# Altium integrated library Analog Devices Data Converters Digital-to-Analog Converters.IntLib: 2231 symbols (part 60 of 181)
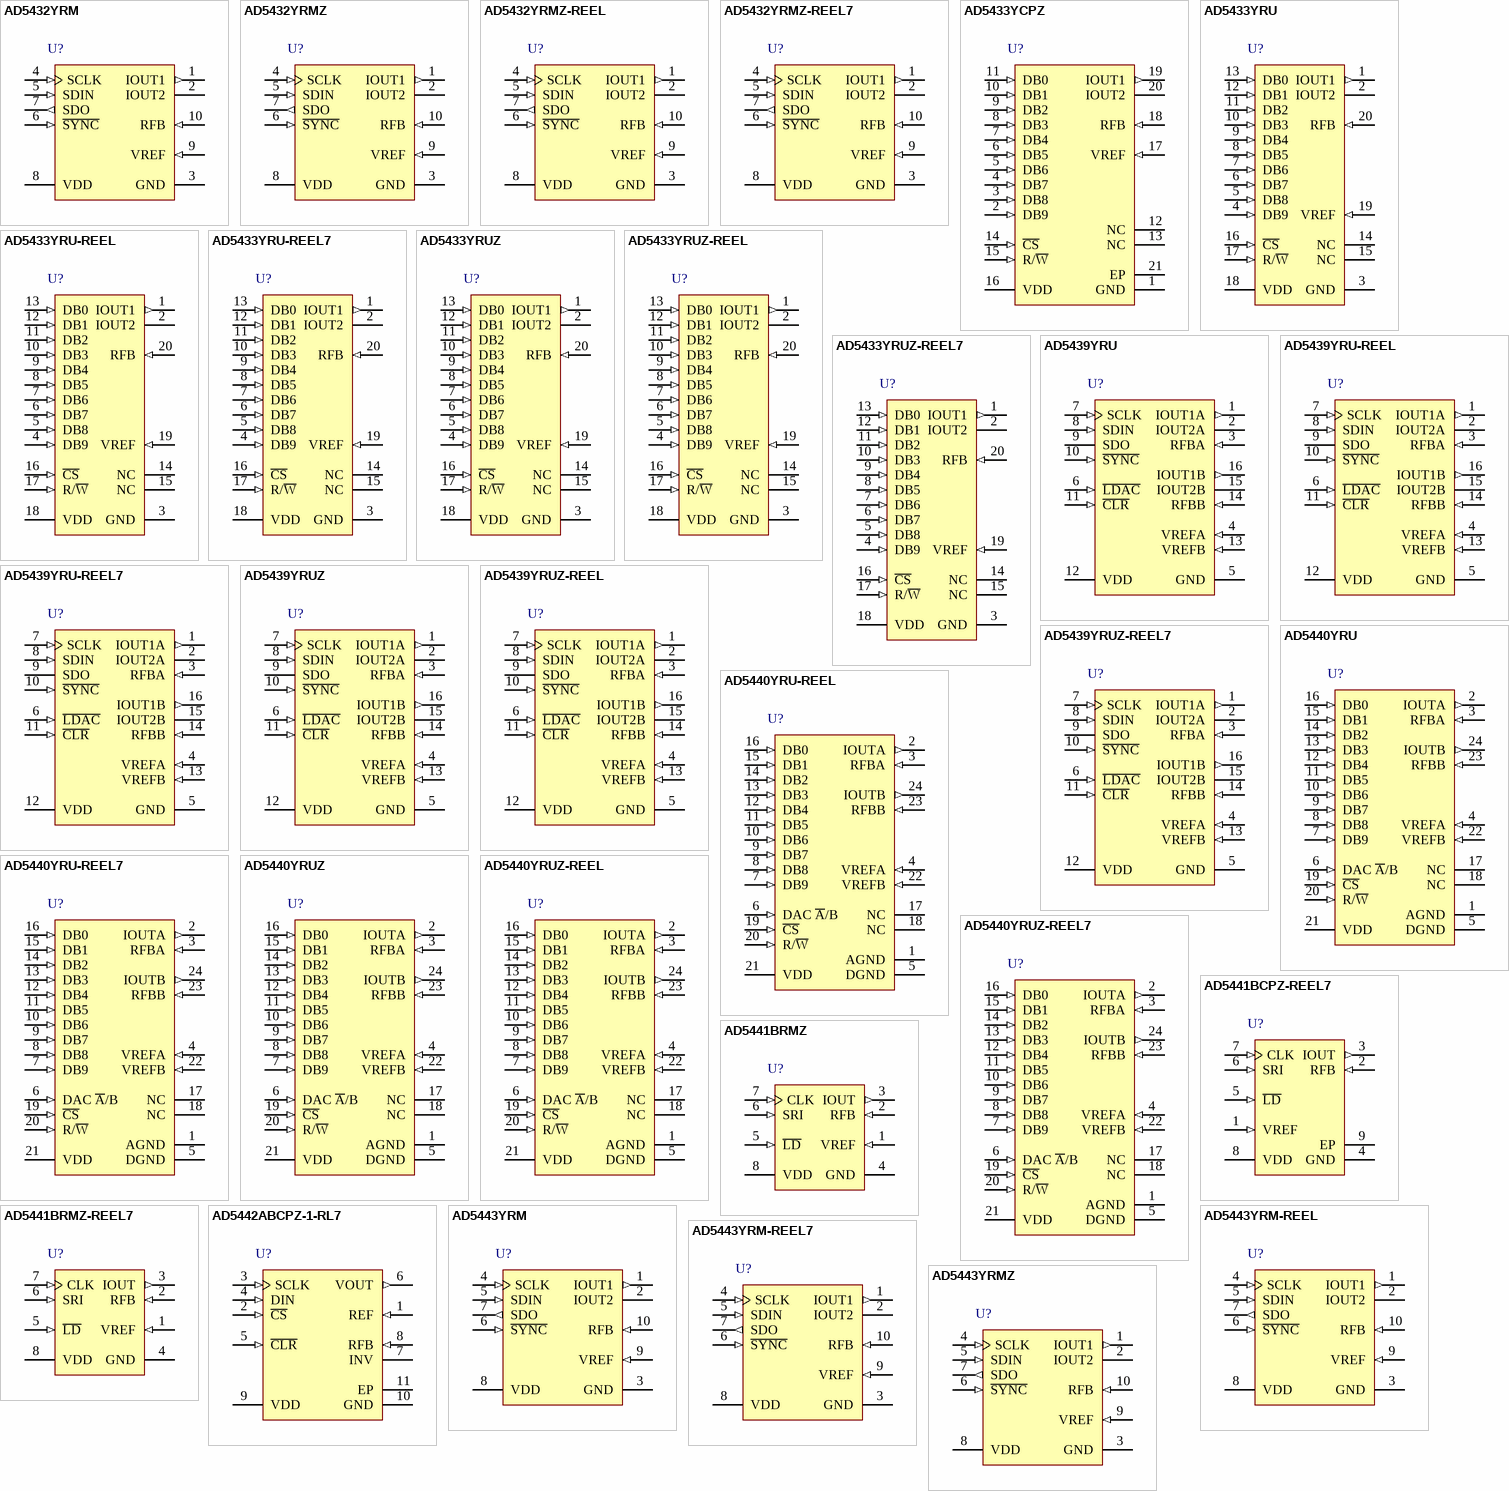
[diagram p173: symbols AD5432YRM to AD5443YRMZ]

## AD5439YRUZ
designator U?
Dual 10-Bit High Bandwidth Multiplying Digital-to-Analog Converter, -40 to +125 degC, RU-16, Pb-Free, Tube; Generic Part Number: AD5439; Manufacturer: Analog Devices; PartNumber: AD5439YRUZ; # DAC Outputs: 2; Max V+: 5.5V; Op Pwr Diss: 3.5µW; Resolution (Bits): 10; Settling Time: 35ns; Single Supply: Yes; DatasheetVersion: Rev.D; PackageVersion: Nov-2002; PackageReference: RU-16; PackageDescription: 16-Lead Thin Shrink Small Outline Package [TSSOP]; Supplier 1: Digi-Key; Supplier Part Number 1: AD5439YRUZ-ND; Supplier 2: Newark; Supplier Part Number 2: 59K4141; Supplier 3: Mouser; Supplier Part Number 3: 584-AD5439YRUZ; Packing: Tube; RoHS: Y; Mounting Technology: Surface Mount; Code_JEDEC: MO-153-AB; ComponentLink1Description: Manufacturer URL; ComponentLink1URL: http://www.analog.com/en/index.html; ComponentLink2Description: Datasheet; ComponentLink2URL: http://www.analog.com/static/imported-files/data_sheets/AD5429_5439_5449.pdf; ComponentLink3Description: Package Specification; ComponentLink3URL: http://www.analog.com/static/imported-files/packages/36244347913743854010197452789RU16.pdf; ComponentLink4Description: Product URL; ComponentLink4URL: http://www.analog.com/en/digital-to-analog-converters/da-converters/ad5439/products/product.html
footprint RU-16_N (TSOP, 16-Leads, Body 5x4.4mm, Pitch 0.65mm, IPC Medium Density)
footprint RU-16_L (TSOP, 16-Leads, Body 5x4.4mm, Pitch 0.65mm, IPC High Density)
footprint RU-16_M (TSOP, 16-Leads, Body 5x4.4mm, Pitch 0.65mm, IPC Low Density)
pins: 1 IOUT1A (out) "DAC A Current Output.", 2 IOUT2A "DAC A Analog Ground. This pin should typically be tied to the analog ground of the system, but it can be biased to achieve single-supply operation.", 3 RFBA (in) "DAC Feedback Resistor Pin. This pin establishes voltage output for the DAC by connecting to an external amplifier output.", 4 VREFA (in) "DAC A Reference Voltage Input Pin.", 5 GND (power) "Ground Pin.", 6 ~{LDAC} (in) "Load DAC Input. This pin allows asynchronous or synchronous updates to the DAC output. The DAC is asynchronously updated when this signal goes low. Alternatively, if this line is held permanently low, an automatic or (See Datasheet)", 7 SCLK (in) "Serial Clock Input. By default, data is clocked into the input shift register on the falling edge of the serial clock input. Alternatively, by means of the serial control bits, the device can be configured such that data is (See Datasheet)", 8 SDIN (in) "Serial Data Input. Data is clocked into the 16-bit input register on the active edge of the serial clock input. By default, data is clocked at power-on into the shift register on the falling edge of SCLK. The control bits (See Datasheet)", 9 SDO (oc) "Serial Data Output. This pin allows a number of parts to be daisy-chained. By default, data is clocked into the shift register on the falling edge and clocked out via SDO on the rising edge of SCLK. Data is always clocked (See Datasheet)", 10 ~{SYNC} (in) "Active Low Control Input. This pin provides the frame synchronization signal for the input data. When S\Y\N\C\ goes low, it powers on the SCLK and DIN buffers, and the input shift register is enabled. Data is loaded into the (See Datasheet)", 11 ~{CLR} (in) "Active Low Control Input. This pin clears the DAC output, input, and DAC registers. Configuration mode allows the user to enable the hardware C\L\R\ pin as a clear-to-zero scale or midscale, as required.", 12 VDD (power) "Positive Power Supply Input. These parts can be operated from a supply of 2.5 V to 5.5 V.", 13 VREFB (in) "DAC B Reference Voltage Input Pin.", 14 RFBB (in) "DAC B Feedback Resistor Pin. This pin establishes voltage output for the DAC by connecting to an external amplifier output.", 15 IOUT2B "DAC B Analog Ground. This pin typically should be tied to the analog ground of the system, but it can be biased to achieve single-supply operation.", 16 IOUT1B (out) "DAC B Current Output."

## AD5439YRUZ-REEL
designator U?
Dual 10-Bit High Bandwidth Multiplying Digital-to-Analog Converter, -40 to +125 degC, RU-16, Pb-Free, Reel; Generic Part Number: AD5439; Manufacturer: Analog Devices; PartNumber: AD5439YRUZ-REEL; # DAC Outputs: 2; Max V+: 5.5V; Op Pwr Diss: 3.5µW; Resolution (Bits): 10; Settling Time: 35ns; Single Supply: Yes; DatasheetVersion: Rev.D; PackageVersion: Nov-2002; PackageReference: RU-16; PackageDescription: 16-Lead Thin Shrink Small Outline Package [TSSOP]; Supplier 1: Digi-Key; Supplier Part Number 1: AD5439YRUZ-REEL-ND; Supplier 2: Mouser; Supplier Part Number 2: 584-AD5439YRUZ-R; Packing: Reel; RoHS: Y; Mounting Technology: Surface Mount; Code_JEDEC: MO-153-AB; ComponentLink1Description: Manufacturer URL; ComponentLink1URL: http://www.analog.com/en/index.html; ComponentLink2Description: Datasheet; ComponentLink2URL: http://www.analog.com/static/imported-files/data_sheets/AD5429_5439_5449.pdf; ComponentLink3Description: Package Specification; ComponentLink3URL: http://www.analog.com/static/imported-files/packages/36244347913743854010197452789RU16.pdf; ComponentLink4Description: Product URL; ComponentLink4URL: http://www.analog.com/en/digital-to-analog-converters/da-converters/ad5439/products/product.html
footprint RU-16_N (TSOP, 16-Leads, Body 5x4.4mm, Pitch 0.65mm, IPC Medium Density)
footprint RU-16_L (TSOP, 16-Leads, Body 5x4.4mm, Pitch 0.65mm, IPC High Density)
footprint RU-16_M (TSOP, 16-Leads, Body 5x4.4mm, Pitch 0.65mm, IPC Low Density)
pins: 1 IOUT1A (out) "DAC A Current Output.", 2 IOUT2A "DAC A Analog Ground. This pin should typically be tied to the analog ground of the system, but it can be biased to achieve single-supply operation.", 3 RFBA (in) "DAC Feedback Resistor Pin. This pin establishes voltage output for the DAC by connecting to an external amplifier output.", 4 VREFA (in) "DAC A Reference Voltage Input Pin.", 5 GND (power) "Ground Pin.", 6 ~{LDAC} (in) "Load DAC Input. This pin allows asynchronous or synchronous updates to the DAC output. The DAC is asynchronously updated when this signal goes low. Alternatively, if this line is held permanently low, an automatic or (See Datasheet)", 7 SCLK (in) "Serial Clock Input. By default, data is clocked into the input shift register on the falling edge of the serial clock input. Alternatively, by means of the serial control bits, the device can be configured such that data is (See Datasheet)", 8 SDIN (in) "Serial Data Input. Data is clocked into the 16-bit input register on the active edge of the serial clock input. By default, data is clocked at power-on into the shift register on the falling edge of SCLK. The control bits (See Datasheet)", 9 SDO (oc) "Serial Data Output. This pin allows a number of parts to be daisy-chained. By default, data is clocked into the shift register on the falling edge and clocked out via SDO on the rising edge of SCLK. Data is always clocked (See Datasheet)", 10 ~{SYNC} (in) "Active Low Control Input. This pin provides the frame synchronization signal for the input data. When S\Y\N\C\ goes low, it powers on the SCLK and DIN buffers, and the input shift register is enabled. Data is loaded into the (See Datasheet)", 11 ~{CLR} (in) "Active Low Control Input. This pin clears the DAC output, input, and DAC registers. Configuration mode allows the user to enable the hardware C\L\R\ pin as a clear-to-zero scale or midscale, as required.", 12 VDD (power) "Positive Power Supply Input. These parts can be operated from a supply of 2.5 V to 5.5 V.", 13 VREFB (in) "DAC B Reference Voltage Input Pin.", 14 RFBB (in) "DAC B Feedback Resistor Pin. This pin establishes voltage output for the DAC by connecting to an external amplifier output.", 15 IOUT2B "DAC B Analog Ground. This pin typically should be tied to the analog ground of the system, but it can be biased to achieve single-supply operation.", 16 IOUT1B (out) "DAC B Current Output."

## AD5439YRUZ-REEL7
designator U?
Dual 10-Bit High Bandwidth Multiplying Digital-to-Analog Converter, -40 to +125 degC, RU-16, Pb-Free, Reel; Generic Part Number: AD5439; Manufacturer: Analog Devices; PartNumber: AD5439YRUZ-REEL7; # DAC Outputs: 2; Max V+: 5.5V; Op Pwr Diss: 3.5µW; Resolution (Bits): 10; Settling Time: 35ns; Single Supply: Yes; DatasheetVersion: Rev.D; PackageVersion: Nov-2002; PackageReference: RU-16; PackageDescription: 16-Lead Thin Shrink Small Outline Package [TSSOP]; Supplier 1: Digi-Key; Supplier Part Number 1: AD5439YRUZ-REEL7TR-ND; Supplier 2: Mouser; Supplier Part Number 2: 584-AD5439YRUZ-R7; Packing: Reel; RoHS: Y; Mounting Technology: Surface Mount; Code_JEDEC: MO-153-AB; ComponentLink1Description: Manufacturer URL; ComponentLink1URL: http://www.analog.com/en/index.html; ComponentLink2Description: Datasheet; ComponentLink2URL: http://www.analog.com/static/imported-files/data_sheets/AD5429_5439_5449.pdf; ComponentLink3Description: Package Specification; ComponentLink3URL: http://www.analog.com/static/imported-files/packages/36244347913743854010197452789RU16.pdf; ComponentLink4Description: Product URL; ComponentLink4URL: http://www.analog.com/en/digital-to-analog-converters/da-converters/ad5439/products/product.html
footprint RU-16_N (TSOP, 16-Leads, Body 5x4.4mm, Pitch 0.65mm, IPC Medium Density)
footprint RU-16_L (TSOP, 16-Leads, Body 5x4.4mm, Pitch 0.65mm, IPC High Density)
footprint RU-16_M (TSOP, 16-Leads, Body 5x4.4mm, Pitch 0.65mm, IPC Low Density)
pins: 1 IOUT1A (out) "DAC A Current Output.", 2 IOUT2A "DAC A Analog Ground. This pin should typically be tied to the analog ground of the system, but it can be biased to achieve single-supply operation.", 3 RFBA (in) "DAC Feedback Resistor Pin. This pin establishes voltage output for the DAC by connecting to an external amplifier output.", 4 VREFA (in) "DAC A Reference Voltage Input Pin.", 5 GND (power) "Ground Pin.", 6 ~{LDAC} (in) "Load DAC Input. This pin allows asynchronous or synchronous updates to the DAC output. The DAC is asynchronously updated when this signal goes low. Alternatively, if this line is held permanently low, an automatic or (See Datasheet)", 7 SCLK (in) "Serial Clock Input. By default, data is clocked into the input shift register on the falling edge of the serial clock input. Alternatively, by means of the serial control bits, the device can be configured such that data is (See Datasheet)", 8 SDIN (in) "Serial Data Input. Data is clocked into the 16-bit input register on the active edge of the serial clock input. By default, data is clocked at power-on into the shift register on the falling edge of SCLK. The control bits (See Datasheet)", 9 SDO (oc) "Serial Data Output. This pin allows a number of parts to be daisy-chained. By default, data is clocked into the shift register on the falling edge and clocked out via SDO on the rising edge of SCLK. Data is always clocked (See Datasheet)", 10 ~{SYNC} (in) "Active Low Control Input. This pin provides the frame synchronization signal for the input data. When S\Y\N\C\ goes low, it powers on the SCLK and DIN buffers, and the input shift register is enabled. Data is loaded into the (See Datasheet)", 11 ~{CLR} (in) "Active Low Control Input. This pin clears the DAC output, input, and DAC registers. Configuration mode allows the user to enable the hardware C\L\R\ pin as a clear-to-zero scale or midscale, as required.", 12 VDD (power) "Positive Power Supply Input. These parts can be operated from a supply of 2.5 V to 5.5 V.", 13 VREFB (in) "DAC B Reference Voltage Input Pin.", 14 RFBB (in) "DAC B Feedback Resistor Pin. This pin establishes voltage output for the DAC by connecting to an external amplifier output.", 15 IOUT2B "DAC B Analog Ground. This pin typically should be tied to the analog ground of the system, but it can be biased to achieve single-supply operation.", 16 IOUT1B (out) "DAC B Current Output."

## AD5440YRU
designator U?
Dual 10-Bit High Bandwidth Multiplying Digital-to-Analog Converter, -40 to +125 degC, RU-24, Tube; Generic Part Number: AD5440; Manufacturer: Analog Devices; PartNumber: AD5440YRU; # DAC Outputs: 2; Max V+: 5.5V; Op Pwr Diss: 3.3µW; Resolution (Bits): 10; Settling Time: 35ns; Single Supply: Yes; DatasheetVersion: Rev.C; PackageVersion: 2002; PackageReference: RU-24; PackageDescription: 24-Lead Thin Shrink Small Outline Package [TSSOP]; Supplier 1: Digi-Key; Supplier Part Number 1: AD5440YRU-ND; Supplier 2: Mouser; Supplier Part Number 2: 584-AD5440YRU; Packing: Tube; RoHS: N; Mounting Technology: Surface Mount; Code_JEDEC: MO-153-AD; ComponentLink1Description: Manufacturer URL; ComponentLink1URL: http://www.analog.com/en/index.html; ComponentLink2Description: Datasheet; ComponentLink2URL: http://www.analog.com/static/imported-files/data_sheets/AD5428_5440_5447.pdf; ComponentLink3Description: Package Specification; ComponentLink3URL: http://www.analog.com/static/imported-files/packages/380523655245964505593671154107510036154RU24.pdf; ComponentLink4Description: Product URL; ComponentLink4URL: http://www.analog.com/en/digital-to-analog-converters/da-converters/ad5440/products/product.html
footprint RU-24_N (TSOP, 24-Leads, Body 7.8x4.4mm, Pitch 0.65mm, IPC Medium Density)
footprint RU-24_L (TSOP, 24-Leads, Body 7.8x4.4mm, Pitch 0.65mm, IPC High Density)
footprint RU-24_M (TSOP, 24-Leads, Body 7.8x4.4mm, Pitch 0.65mm, IPC Low Density)
pins: 1 AGND (power) "DAC Ground Pin. This pin should typically be tied to the analog ground of the system, but can be biased to achieve single-supply operation.", 2 IOUTA (out) "DAC Current Output.", 3 RFBA (in) "DAC Feedback Resistor Pins. Establish voltage output for the DAC by connecting to an external amplifier output.", 4 VREFA (in) "DAC Reference Voltage Input Terminals.", 5 DGND (power) "Digital Ground Pin.", 6 DAC ~{A}/B (in) "Selects DAC A or DAC B. Low selects DAC A; high selects DAC B.", 7 DB9 (in) "Parallel Data Bit 9", 8 DB8 (in) "Parallel Data Bit 8", 9 DB7 (in) "Parallel Data Bit 7", 10 DB6 (in) "Parallel Data Bit 6", 11 DB5 (in) "Parallel Data Bit 5", 12 DB4 (in) "Parallel Data Bit 4", 13 DB3 (in) "Parallel Data Bit 3", 14 DB2 (in) "Parallel Data Bit 2", 15 DB1 (in) "Parallel Data Bit 1", 16 DB0 (in) "Parallel Data Bit 0", 17 NC "No connection", 18 NC "No connection", 19 ~{CS} (in) "Chip Select Input. Active low. Used in conjunction with R/W\ to load parallel data to the input latch or to read data from the DAC register.", 20 R/~{W} (in) "Read/Write. When low, used in conjunction with C\S\ to load parallel data. When high, used in conjunction with C\S\ to read back the contents of the DAC register. When C\S\ and R/W\ are held low, the latches are transparent. (See Datasheet)", 21 VDD (power) "Positive Power Supply Input. This part can be operated from a supply of 2.5 V to 5.5 V.", 22 VREFB (in) "DAC Reference Voltage Input Terminals.", 23 RFBB (in) "DAC Feedback Resistor Pins. Establish voltage output for the DAC by connecting to an external amplifier output.", 24 IOUTB (out) "DAC Current Output."

## AD5440YRU-REEL
designator U?
Dual 10-Bit High Bandwidth Multiplying Digital-to-Analog Converter, -40 to +125 degC, RU-24, Reel; Generic Part Number: AD5440; Manufacturer: Analog Devices; PartNumber: AD5440YRU-REEL; # DAC Outputs: 2; Max V+: 5.5V; Op Pwr Diss: 3.3µW; Resolution (Bits): 10; Settling Time: 35ns; Single Supply: Yes; DatasheetVersion: Rev.C; PackageVersion: 2002; PackageReference: RU-24; PackageDescription: 24-Lead Thin Shrink Small Outline Package [TSSOP]; Supplier 1: Digi-Key; Supplier Part Number 1: AD5440YRU-REEL-ND; Supplier 2: Newark; Supplier Part Number 2: 59K4143; Supplier 3: Mouser; Supplier Part Number 3: 584-AD5440YRU-R; Packing: Reel; RoHS: N; Mounting Technology: Surface Mount; Code_JEDEC: MO-153-AD; ComponentLink1Description: Manufacturer URL; ComponentLink1URL: http://www.analog.com/en/index.html; ComponentLink2Description: Datasheet; ComponentLink2URL: http://www.analog.com/static/imported-files/data_sheets/AD5428_5440_5447.pdf; ComponentLink3Description: Package Specification; ComponentLink3URL: http://www.analog.com/static/imported-files/packages/380523655245964505593671154107510036154RU24.pdf; ComponentLink4Description: Product URL; ComponentLink4URL: http://www.analog.com/en/digital-to-analog-converters/da-converters/ad5440/products/product.html
footprint RU-24_N (TSOP, 24-Leads, Body 7.8x4.4mm, Pitch 0.65mm, IPC Medium Density)
footprint RU-24_L (TSOP, 24-Leads, Body 7.8x4.4mm, Pitch 0.65mm, IPC High Density)
footprint RU-24_M (TSOP, 24-Leads, Body 7.8x4.4mm, Pitch 0.65mm, IPC Low Density)
pins: 1 AGND (power) "DAC Ground Pin. This pin should typically be tied to the analog ground of the system, but can be biased to achieve single-supply operation.", 2 IOUTA (out) "DAC Current Output.", 3 RFBA (in) "DAC Feedback Resistor Pins. Establish voltage output for the DAC by connecting to an external amplifier output.", 4 VREFA (in) "DAC Reference Voltage Input Terminals.", 5 DGND (power) "Digital Ground Pin.", 6 DAC ~{A}/B (in) "Selects DAC A or DAC B. Low selects DAC A; high selects DAC B.", 7 DB9 (in) "Parallel Data Bit 9", 8 DB8 (in) "Parallel Data Bit 8", 9 DB7 (in) "Parallel Data Bit 7", 10 DB6 (in) "Parallel Data Bit 6", 11 DB5 (in) "Parallel Data Bit 5", 12 DB4 (in) "Parallel Data Bit 4", 13 DB3 (in) "Parallel Data Bit 3", 14 DB2 (in) "Parallel Data Bit 2", 15 DB1 (in) "Parallel Data Bit 1", 16 DB0 (in) "Parallel Data Bit 0", 17 NC "No connection", 18 NC "No connection", 19 ~{CS} (in) "Chip Select Input. Active low. Used in conjunction with R/W\ to load parallel data to the input latch or to read data from the DAC register.", 20 R/~{W} (in) "Read/Write. When low, used in conjunction with C\S\ to load parallel data. When high, used in conjunction with C\S\ to read back the contents of the DAC register. When C\S\ and R/W\ are held low, the latches are transparent. (See Datasheet)", 21 VDD (power) "Positive Power Supply Input. This part can be operated from a supply of 2.5 V to 5.5 V.", 22 VREFB (in) "DAC Reference Voltage Input Terminals.", 23 RFBB (in) "DAC Feedback Resistor Pins. Establish voltage output for the DAC by connecting to an external amplifier output.", 24 IOUTB (out) "DAC Current Output."

## AD5440YRU-REEL7
designator U?
Dual 10-Bit High Bandwidth Multiplying Digital-to-Analog Converter, -40 to +125 degC, RU-24, Reel; Generic Part Number: AD5440; Manufacturer: Analog Devices; PartNumber: AD5440YRU-REEL7; # DAC Outputs: 2; Max V+: 5.5V; Op Pwr Diss: 3.3µW; Resolution (Bits): 10; Settling Time: 35ns; Single Supply: Yes; DatasheetVersion: Rev.C; PackageVersion: 2002; PackageReference: RU-24; PackageDescription: 24-Lead Thin Shrink Small Outline Package [TSSOP]; Supplier 1: Digi-Key; Supplier Part Number 1: AD5440YRU-REEL7-ND; Supplier 2: Mouser; Supplier Part Number 2: 584-AD5440YRU-R7; Packing: Reel; RoHS: N; Mounting Technology: Surface Mount; Code_JEDEC: MO-153-AD; ComponentLink1Description: Manufacturer URL; ComponentLink1URL: http://www.analog.com/en/index.html; ComponentLink2Description: Datasheet; ComponentLink2URL: http://www.analog.com/static/imported-files/data_sheets/AD5428_5440_5447.pdf; ComponentLink3Description: Package Specification; ComponentLink3URL: http://www.analog.com/static/imported-files/packages/380523655245964505593671154107510036154RU24.pdf; ComponentLink4Description: Product URL; ComponentLink4URL: http://www.analog.com/en/digital-to-analog-converters/da-converters/ad5440/products/product.html
footprint RU-24_N (TSOP, 24-Leads, Body 7.8x4.4mm, Pitch 0.65mm, IPC Medium Density)
footprint RU-24_L (TSOP, 24-Leads, Body 7.8x4.4mm, Pitch 0.65mm, IPC High Density)
footprint RU-24_M (TSOP, 24-Leads, Body 7.8x4.4mm, Pitch 0.65mm, IPC Low Density)
pins: 1 AGND (power) "DAC Ground Pin. This pin should typically be tied to the analog ground of the system, but can be biased to achieve single-supply operation.", 2 IOUTA (out) "DAC Current Output.", 3 RFBA (in) "DAC Feedback Resistor Pins. Establish voltage output for the DAC by connecting to an external amplifier output.", 4 VREFA (in) "DAC Reference Voltage Input Terminals.", 5 DGND (power) "Digital Ground Pin.", 6 DAC ~{A}/B (in) "Selects DAC A or DAC B. Low selects DAC A; high selects DAC B.", 7 DB9 (in) "Parallel Data Bit 9", 8 DB8 (in) "Parallel Data Bit 8", 9 DB7 (in) "Parallel Data Bit 7", 10 DB6 (in) "Parallel Data Bit 6", 11 DB5 (in) "Parallel Data Bit 5", 12 DB4 (in) "Parallel Data Bit 4", 13 DB3 (in) "Parallel Data Bit 3", 14 DB2 (in) "Parallel Data Bit 2", 15 DB1 (in) "Parallel Data Bit 1", 16 DB0 (in) "Parallel Data Bit 0", 17 NC "No connection", 18 NC "No connection", 19 ~{CS} (in) "Chip Select Input. Active low. Used in conjunction with R/W\ to load parallel data to the input latch or to read data from the DAC register.", 20 R/~{W} (in) "Read/Write. When low, used in conjunction with C\S\ to load parallel data. When high, used in conjunction with C\S\ to read back the contents of the DAC register. When C\S\ and R/W\ are held low, the latches are transparent. (See Datasheet)", 21 VDD (power) "Positive Power Supply Input. This part can be operated from a supply of 2.5 V to 5.5 V.", 22 VREFB (in) "DAC Reference Voltage Input Terminals.", 23 RFBB (in) "DAC Feedback Resistor Pins. Establish voltage output for the DAC by connecting to an external amplifier output.", 24 IOUTB (out) "DAC Current Output."

## AD5440YRUZ
designator U?
Dual 10-Bit High Bandwidth Multiplying Digital-to-Analog Converter, -40 to +125 degC, RU-24, Pb-Free, Tube; Generic Part Number: AD5440; Manufacturer: Analog Devices; PartNumber: AD5440YRUZ; # DAC Outputs: 2; Max V+: 5.5V; Op Pwr Diss: 3.3µW; Resolution (Bits): 10; Settling Time: 35ns; Single Supply: Yes; DatasheetVersion: Rev.C; PackageVersion: 2002; PackageReference: RU-24; PackageDescription: 24-Lead Thin Shrink Small Outline Package [TSSOP]; Supplier 1: Digi-Key; Supplier Part Number 1: AD5440YRUZ-ND; Supplier 2: Mouser; Supplier Part Number 2: 584-AD5440YRUZ; Packing: Tube; RoHS: Y; Mounting Technology: Surface Mount; Code_JEDEC: MO-153-AD; ComponentLink1Description: Manufacturer URL; ComponentLink1URL: http://www.analog.com/en/index.html; ComponentLink2Description: Datasheet; ComponentLink2URL: http://www.analog.com/static/imported-files/data_sheets/AD5428_5440_5447.pdf; ComponentLink3Description: Package Specification; ComponentLink3URL: http://www.analog.com/static/imported-files/packages/380523655245964505593671154107510036154RU24.pdf; ComponentLink4Description: Product URL; ComponentLink4URL: http://www.analog.com/en/digital-to-analog-converters/da-converters/ad5440/products/product.html
footprint RU-24_N (TSOP, 24-Leads, Body 7.8x4.4mm, Pitch 0.65mm, IPC Medium Density)
footprint RU-24_L (TSOP, 24-Leads, Body 7.8x4.4mm, Pitch 0.65mm, IPC High Density)
footprint RU-24_M (TSOP, 24-Leads, Body 7.8x4.4mm, Pitch 0.65mm, IPC Low Density)
pins: 1 AGND (power) "DAC Ground Pin. This pin should typically be tied to the analog ground of the system, but can be biased to achieve single-supply operation.", 2 IOUTA (out) "DAC Current Output.", 3 RFBA (in) "DAC Feedback Resistor Pins. Establish voltage output for the DAC by connecting to an external amplifier output.", 4 VREFA (in) "DAC Reference Voltage Input Terminals.", 5 DGND (power) "Digital Ground Pin.", 6 DAC ~{A}/B (in) "Selects DAC A or DAC B. Low selects DAC A; high selects DAC B.", 7 DB9 (in) "Parallel Data Bit 9", 8 DB8 (in) "Parallel Data Bit 8", 9 DB7 (in) "Parallel Data Bit 7", 10 DB6 (in) "Parallel Data Bit 6", 11 DB5 (in) "Parallel Data Bit 5", 12 DB4 (in) "Parallel Data Bit 4", 13 DB3 (in) "Parallel Data Bit 3", 14 DB2 (in) "Parallel Data Bit 2", 15 DB1 (in) "Parallel Data Bit 1", 16 DB0 (in) "Parallel Data Bit 0", 17 NC "No connection", 18 NC "No connection", 19 ~{CS} (in) "Chip Select Input. Active low. Used in conjunction with R/W\ to load parallel data to the input latch or to read data from the DAC register.", 20 R/~{W} (in) "Read/Write. When low, used in conjunction with C\S\ to load parallel data. When high, used in conjunction with C\S\ to read back the contents of the DAC register. When C\S\ and R/W\ are held low, the latches are transparent. (See Datasheet)", 21 VDD (power) "Positive Power Supply Input. This part can be operated from a supply of 2.5 V to 5.5 V.", 22 VREFB (in) "DAC Reference Voltage Input Terminals.", 23 RFBB (in) "DAC Feedback Resistor Pins. Establish voltage output for the DAC by connecting to an external amplifier output.", 24 IOUTB (out) "DAC Current Output."

## AD5440YRUZ-REEL
designator U?
Dual 10-Bit High Bandwidth Multiplying Digital-to-Analog Converter, -40 to +125 degC, RU-24, Pb-Free, Reel; Generic Part Number: AD5440; Manufacturer: Analog Devices; PartNumber: AD5440YRUZ-REEL; # DAC Outputs: 2; Max V+: 5.5V; Op Pwr Diss: 3.3µW; Resolution (Bits): 10; Settling Time: 35ns; Single Supply: Yes; DatasheetVersion: Rev.C; PackageVersion: 2002; PackageReference: RU-24; PackageDescription: 24-Lead Thin Shrink Small Outline Package [TSSOP]; Supplier 1: Digi-Key; Supplier Part Number 1: AD5440YRUZ-REEL-ND; Supplier 2: Mouser; Supplier Part Number 2: 584-AD5440YRUZ-R; Packing: Reel; RoHS: Y; Mounting Technology: Surface Mount; Code_JEDEC: MO-153-AD; ComponentLink1Description: Manufacturer URL; ComponentLink1URL: http://www.analog.com/en/index.html; ComponentLink2Description: Datasheet; ComponentLink2URL: http://www.analog.com/static/imported-files/data_sheets/AD5428_5440_5447.pdf; ComponentLink3Description: Package Specification; ComponentLink3URL: http://www.analog.com/static/imported-files/packages/380523655245964505593671154107510036154RU24.pdf; ComponentLink4Description: Product URL; ComponentLink4URL: http://www.analog.com/en/digital-to-analog-converters/da-converters/ad5440/products/product.html
footprint RU-24_N (TSOP, 24-Leads, Body 7.8x4.4mm, Pitch 0.65mm, IPC Medium Density)
footprint RU-24_L (TSOP, 24-Leads, Body 7.8x4.4mm, Pitch 0.65mm, IPC High Density)
footprint RU-24_M (TSOP, 24-Leads, Body 7.8x4.4mm, Pitch 0.65mm, IPC Low Density)
pins: 1 AGND (power) "DAC Ground Pin. This pin should typically be tied to the analog ground of the system, but can be biased to achieve single-supply operation.", 2 IOUTA (out) "DAC Current Output.", 3 RFBA (in) "DAC Feedback Resistor Pins. Establish voltage output for the DAC by connecting to an external amplifier output.", 4 VREFA (in) "DAC Reference Voltage Input Terminals.", 5 DGND (power) "Digital Ground Pin.", 6 DAC ~{A}/B (in) "Selects DAC A or DAC B. Low selects DAC A; high selects DAC B.", 7 DB9 (in) "Parallel Data Bit 9", 8 DB8 (in) "Parallel Data Bit 8", 9 DB7 (in) "Parallel Data Bit 7", 10 DB6 (in) "Parallel Data Bit 6", 11 DB5 (in) "Parallel Data Bit 5", 12 DB4 (in) "Parallel Data Bit 4", 13 DB3 (in) "Parallel Data Bit 3", 14 DB2 (in) "Parallel Data Bit 2", 15 DB1 (in) "Parallel Data Bit 1", 16 DB0 (in) "Parallel Data Bit 0", 17 NC "No connection", 18 NC "No connection", 19 ~{CS} (in) "Chip Select Input. Active low. Used in conjunction with R/W\ to load parallel data to the input latch or to read data from the DAC register.", 20 R/~{W} (in) "Read/Write. When low, used in conjunction with C\S\ to load parallel data. When high, used in conjunction with C\S\ to read back the contents of the DAC register. When C\S\ and R/W\ are held low, the latches are transparent. (See Datasheet)", 21 VDD (power) "Positive Power Supply Input. This part can be operated from a supply of 2.5 V to 5.5 V.", 22 VREFB (in) "DAC Reference Voltage Input Terminals.", 23 RFBB (in) "DAC Feedback Resistor Pins. Establish voltage output for the DAC by connecting to an external amplifier output.", 24 IOUTB (out) "DAC Current Output."

## AD5440YRUZ-REEL7
designator U?
Dual 10-Bit High Bandwidth Multiplying Digital-to-Analog Converter, -40 to +125 degC, RU-24, Pb-Free, Reel; Generic Part Number: AD5440; Manufacturer: Analog Devices; PartNumber: AD5440YRUZ-REEL7; # DAC Outputs: 2; Max V+: 5.5V; Op Pwr Diss: 3.3µW; Resolution (Bits): 10; Settling Time: 35ns; Single Supply: Yes; DatasheetVersion: Rev.C; PackageVersion: 2002; PackageReference: RU-24; PackageDescription: 24-Lead Thin Shrink Small Outline Package [TSSOP]; Supplier 1: Digi-Key; Supplier Part Number 1: AD5440YRUZ-REEL7-ND; Supplier 2: Mouser; Supplier Part Number 2: 584-AD5440YRUZ-R7; Packing: Reel; RoHS: Y; Mounting Technology: Surface Mount; Code_JEDEC: MO-153-AD; ComponentLink1Description: Manufacturer URL; ComponentLink1URL: http://www.analog.com/en/index.html; ComponentLink2Description: Datasheet; ComponentLink2URL: http://www.analog.com/static/imported-files/data_sheets/AD5428_5440_5447.pdf; ComponentLink3Description: Package Specification; ComponentLink3URL: http://www.analog.com/static/imported-files/packages/380523655245964505593671154107510036154RU24.pdf; ComponentLink4Description: Product URL; ComponentLink4URL: http://www.analog.com/en/digital-to-analog-converters/da-converters/ad5440/products/product.html
footprint RU-24_N (TSOP, 24-Leads, Body 7.8x4.4mm, Pitch 0.65mm, IPC Medium Density)
footprint RU-24_L (TSOP, 24-Leads, Body 7.8x4.4mm, Pitch 0.65mm, IPC High Density)
footprint RU-24_M (TSOP, 24-Leads, Body 7.8x4.4mm, Pitch 0.65mm, IPC Low Density)
pins: 1 AGND (power) "DAC Ground Pin. This pin should typically be tied to the analog ground of the system, but can be biased to achieve single-supply operation.", 2 IOUTA (out) "DAC Current Output.", 3 RFBA (in) "DAC Feedback Resistor Pins. Establish voltage output for the DAC by connecting to an external amplifier output.", 4 VREFA (in) "DAC Reference Voltage Input Terminals.", 5 DGND (power) "Digital Ground Pin.", 6 DAC ~{A}/B (in) "Selects DAC A or DAC B. Low selects DAC A; high selects DAC B.", 7 DB9 (in) "Parallel Data Bit 9", 8 DB8 (in) "Parallel Data Bit 8", 9 DB7 (in) "Parallel Data Bit 7", 10 DB6 (in) "Parallel Data Bit 6", 11 DB5 (in) "Parallel Data Bit 5", 12 DB4 (in) "Parallel Data Bit 4", 13 DB3 (in) "Parallel Data Bit 3", 14 DB2 (in) "Parallel Data Bit 2", 15 DB1 (in) "Parallel Data Bit 1", 16 DB0 (in) "Parallel Data Bit 0", 17 NC "No connection", 18 NC "No connection", 19 ~{CS} (in) "Chip Select Input. Active low. Used in conjunction with R/W\ to load parallel data to the input latch or to read data from the DAC register.", 20 R/~{W} (in) "Read/Write. When low, used in conjunction with C\S\ to load parallel data. When high, used in conjunction with C\S\ to read back the contents of the DAC register. When C\S\ and R/W\ are held low, the latches are transparent. (See Datasheet)", 21 VDD (power) "Positive Power Supply Input. This part can be operated from a supply of 2.5 V to 5.5 V.", 22 VREFB (in) "DAC Reference Voltage Input Terminals.", 23 RFBB (in) "DAC Feedback Resistor Pins. Establish voltage output for the DAC by connecting to an external amplifier output.", 24 IOUTB (out) "DAC Current Output."

## AD5441BCPZ-REEL7
designator U?
Single 12-Bit Serial Input Multiplying Digital-to-Analog Converter, -40 to +125 degC, CP-8-3, Pb-Free, Reel; Generic Part Number: AD5441; Manufacturer: Analog Devices; PartNumber: AD5441BCPZ-REEL7; # DAC Outputs: 1; Max V+: 5.5V; Op Pwr Diss: 55µW; Resolution (Bits): 12; Settling Time: 500ns; Single Supply: Yes; DatasheetVersion: Rev.A; PackageVersion: 061507-B; PackageReference: CP-8-2; PackageDescription: 8-Lead Lead Frame Chip Scale Package [LFCSP_VD] 3 x 3 mm Body, Very Thin, Dual Lead; Supplier 1: Digi-Key; Supplier Part Number 1: AD5441BCPZ-REEL7TR-ND; Supplier 2: Digi-Key; Supplier Part Number 2: AD5441BCPZ-REEL7CT-ND; Supplier 3: Digi-Key; Supplier Part Number 3: AD5441BCPZ-REEL7DKR-ND; Supplier 4: Mouser; Supplier Part Number 4: 584-AD5441BCPZ-R7; Packing: Reel; RoHS: Y; Mounting Technology: Surface Mount; ComponentLink1Description: Manufacturer URL; ComponentLink1URL: http://www.analog.com/en/index.html; ComponentLink2Description: Datasheet; ComponentLink2URL: http://www.analog.com/static/imported-files/data_sheets/AD5441.pdf; ComponentLink3Description: Package Specification; ComponentLink3URL: http://www.analog.com/static/imported-files/packages/56953322593982CP_8_2.pdf; ComponentLink4Description: Product URL; ComponentLink4URL: http://www.analog.com/en/digital-to-analog-converters/da-converters/ad5441/products/product.html
footprint CP-8-2_N (SON, 8-Leads, Body 3x3mm, Pitch 0.5mm, Thermal Pad 1.75x1.45mm, IPC Medium Density)
footprint CP-8-2_L (SON, 8-Leads, Body 3x3mm, Pitch 0.5mm, Thermal Pad 1.75x1.45mm, IPC High Density)
footprint CP-8-2_M (SON, 8-Leads, Body 3x3mm, Pitch 0.5mm, Thermal Pad 1.75x1.45mm, IPC Low Density)
pins: 1 VREF (in) "DAC Reference Input Pin. Establishes DAC full-scale voltage. Constant input resistance vs. code.", 2 RFB (in) "Internal Matching Feedback Resistor. Connect to external op amp output.", 3 IOUT (out) "DAC Current Output, full-scale output 1 LSB less than reference input voltage -VREF.", 4 GND (power) "Analog and Digital Ground.", 5 ~{LD} (in) "Load Strobe, Level-Sensitive Digital Input. Transfers shift-register data to DAC register while active low. See Table 3 for operation.", 6 SRI (in) "12-Bit Serial Register Input. Data loads directly into the shift register MSB first. Extra leading bits are ignored.", 7 CLK (in) "Clock Input. Positive-edge clocks data into shift register.", 8 VDD (power) "Positive Power Supply Input. Specified range of operation 5 V +/- 10%.", 9 EP (power) "Exposed Pad. The exposed pad should be connected to the ground plane."

## AD5441BRMZ
designator U?
12-Bit Digital-to-Analog Converter with Serial Interface, -40 to +125 degC, RM-8, Pb-Free, Tube; Generic Part Number: AD5441; Manufacturer: Analog Devices; PartNumber: AD5441BRMZ; # DAC Outputs: 1; Max V+: 5.5V; Op Pwr Diss: 55µW; Resolution (Bits): 12; Settling Time: 500ns; Single Supply: Yes; DatasheetVersion: Rev.A; PackageVersion: Aug-2005; PackageReference: RM-8; PackageDescription: 8-Lead Mini Small Outline Package [MSOP]; Supplier 1: Digi-Key; Supplier Part Number 1: AD5441BRMZ-ND; Supplier 2: Farnell; Supplier Part Number 2: 1607228; Supplier 3: Newark; Supplier Part Number 3: 15P0684; Supplier 4: Mouser; Supplier Part Number 4: 584-AD5441BRMZ; Packing: Tube; RoHS: Y; Mounting Technology: Surface Mount; Code_JEDEC: MO-187-AA; ComponentLink1Description: Manufacturer URL; ComponentLink1URL: http://www.analog.com/en/index.html; ComponentLink2Description: Datasheet; ComponentLink2URL: http://www.analog.com/static/imported-files/data_sheets/AD5441.pdf; ComponentLink3Description: Package Specification; ComponentLink3URL: http://www.analog.com/static/imported-files/packages/PKG_PDF/MSOP%28RM%29/RM_8.pdf; ComponentLink4Description: Product URL; ComponentLink4URL: http://www.analog.com/en/digital-to-analog-converters/da-converters/ad5441/products/product.html
footprint RM-8_N (TSOP, 8-Leads, Body 3x3mm, Pitch 0.65mm, IPC Medium Density)
footprint RM-8_L (TSOP, 8-Leads, Body 3x3mm, Pitch 0.65mm, IPC High Density)
footprint RM-8_M (TSOP, 8-Leads, Body 3x3mm, Pitch 0.65mm, IPC Low Density)
pins: 1 VREF (in) "DAC Reference Input Pin. Establishes DAC full-scale voltage. Constant input resistance vs. code.", 2 RFB (in) "Internal Matching Feedback Resistor. Connect to external op amp output.", 3 IOUT (out) "DAC Current Output, full-scale output 1 LSB less than reference input voltage -VREF.", 4 GND (power) "Analog and Digital Ground.", 5 ~{LD} (in) "Load Strobe, Level-Sensitive Digital Input. Transfers shift-register data to DAC register while active low. See Table 3 for operation.", 6 SRI (in) "12-Bit Serial Register Input. Data loads directly into the shift register MSB first. Extra leading bits are ignored.", 7 CLK (in) "Clock Input. Positive-edge clocks data into shift register.", 8 VDD (power) "Positive Power Supply Input. Specified range of operation 5 V +/- 10%."

## AD5441BRMZ-REEL7
designator U?
12-Bit Digital-to-Analog Converter with Serial Interface, -40 to +125 degC, RM-8, Pb-Free, Reel; Generic Part Number: AD5441; Manufacturer: Analog Devices; PartNumber: AD5441BRMZ-REEL7; # DAC Outputs: 1; Max V+: 5.5V; Op Pwr Diss: 55µW; Resolution (Bits): 12; Settling Time: 500ns; Single Supply: Yes; DatasheetVersion: Rev.A; PackageVersion: Aug-2005; PackageReference: RM-8; PackageDescription: 8-Lead Mini Small Outline Package [MSOP]; Supplier 1: Digi-Key; Supplier Part Number 1: AD5441BRMZ-REEL7-ND; Supplier 2: Mouser; Supplier Part Number 2: 584-AD5441BRMZ-R7; Packing: Reel; RoHS: Y; Mounting Technology: Surface Mount; Code_JEDEC: MO-187-AA; ComponentLink1Description: Manufacturer URL; ComponentLink1URL: http://www.analog.com/en/index.html; ComponentLink2Description: Datasheet; ComponentLink2URL: http://www.analog.com/static/imported-files/data_sheets/AD5441.pdf; ComponentLink3Description: Package Specification; ComponentLink3URL: http://www.analog.com/static/imported-files/packages/PKG_PDF/MSOP%28RM%29/RM_8.pdf; ComponentLink4Description: Product URL; ComponentLink4URL: http://www.analog.com/en/digital-to-analog-converters/da-converters/ad5441/products/product.html
footprint RM-8_N (TSOP, 8-Leads, Body 3x3mm, Pitch 0.65mm, IPC Medium Density)
footprint RM-8_L (TSOP, 8-Leads, Body 3x3mm, Pitch 0.65mm, IPC High Density)
footprint RM-8_M (TSOP, 8-Leads, Body 3x3mm, Pitch 0.65mm, IPC Low Density)
pins: 1 VREF (in) "DAC Reference Input Pin. Establishes DAC full-scale voltage. Constant input resistance vs. code.", 2 RFB (in) "Internal Matching Feedback Resistor. Connect to external op amp output.", 3 IOUT (out) "DAC Current Output, full-scale output 1 LSB less than reference input voltage -VREF.", 4 GND (power) "Analog and Digital Ground.", 5 ~{LD} (in) "Load Strobe, Level-Sensitive Digital Input. Transfers shift-register data to DAC register while active low. See Table 3 for operation.", 6 SRI (in) "12-Bit Serial Register Input. Data loads directly into the shift register MSB first. Extra leading bits are ignored.", 7 CLK (in) "Clock Input. Positive-edge clocks data into shift register.", 8 VDD (power) "Positive Power Supply Input. Specified range of operation 5 V +/- 10%."

## AD5442ABCPZ-1-RL7
designator U?
Single 16-Bit Digital-to-Analog Converter with Serial Interface, 2.7 to 5.5 V, -40 to +85 degC, CP-10-9, Pb-Free, Reel; Generic Part Number: AD5542A; Manufacturer: Analog Devices; PartNumber: AD5442ABCPZ-1-RL7; # DAC Outputs: 1; Max V+: 5.5V; Op Pwr Diss: 1.5mW; Resolution (Bits): 16; Settling Time: 1µs; Single Supply: Yes; DatasheetVersion: Rev.A; PackageVersion: 02-27-2012-B; PackageReference: CP-10-9; PackageDescription: 10-Lead Lead Frame Chip Scale Package [LFCSP_WD] 3 x 3 mm Body, Very Very Thin, Dual Lead; Packing: Reel; RoHS: Y; Mounting Technology: Surface Mount; ComponentLink1Description: Manufacturer URL; ComponentLink1URL: http://www.analog.com/en/index.html; ComponentLink2Description: Datasheet; ComponentLink2URL: http://www.analog.com/static/imported-files/data_sheets/AD5512A_5542A.pdf; ComponentLink3Description: Package Specification; ComponentLink3URL: http://www.analog.com/static/imported-files/packages/CP_10_9.pdf; ComponentLink4Description: Product URL; ComponentLink4URL: http://www.analog.com/en/digital-to-analog-converters/da-converters/ad5542a/products/product.html
footprint CP-10-9_N (SON, 10-Leads, Body 3x3mm, Pitch 0.5mm, Thermal Pad 2.35x1.6mm, IPC Medium Density)
footprint CP-10-9_L (SON, 10-Leads, Body 3x3mm, Pitch 0.5mm, Thermal Pad 2.35x1.6mm, IPC High Density)
footprint CP-10-9_M (SON, 10-Leads, Body 3x3mm, Pitch 0.5mm, Thermal Pad 2.35x1.6mm, IPC Low Density)
pins: 1 REF (in) "Voltage Reference Input for the DAC. Connect this pin to an external 2.5 V reference. Reference can range from 2 V to VDD.", 2 ~{CS} (in) "Logic Input Signal. The chip select signal is used to frame the serial data input.", 3 SCLK (in) "Clock Input. Data is clocked into the input register on the rising edge of SCLK. Duty cycle must be between 40% and 60%.", 4 DIN (in) "Serial Data Input. This device accepts 16-bit words. Data is clocked into the input register on the rising edge of SCLK.", 5 ~{CLR} (in) "Asynchronous Clear Input. The C\L\R\ input is falling edge sensitive. When C\L\R\ is low, all L\D\A\C\ pulses are ignored. When C\L\R\ is activated, the DAC register is cleared to the model selectable midscale.", 6 VOUT (out) "Analog Output Voltage from the DAC.", 7 INV "Connection to the Internal Scaling Resistors of the DAC. Connect the INV pin to the external op amps inverting input in bipolar mode.", 8 RFB (in) "Feedback Resistor Pin. In bipolar mode, connect this pin to the external op amp output.", 9 VDD (power) "Analog Supply Voltage, 5 V +/- 10%.", 10 GND (power) "Ground.", 11 EP (power) "The exposed pad should be tied to the point of lowest potential, in this case, GND."

## AD5443YRM
designator U?
Single 12-Bit High Bandwidth Multiplying Digital-to-Analog Converter, -40 to +125 degC, RM-10, Tube; Generic Part Number: AD5443; Manufacturer: Analog Devices; PartNumber: AD5443YRM; # DAC Outputs: 1; Max V+: 5.5V; Op Pwr Diss: 25µW; Resolution (Bits): 12; Settling Time: 90ns; Single Supply: Yes; DatasheetVersion: Rev.D; PackageVersion: May-2005; PackageReference: RM-10; PackageDescription: 10-Lead Mini Small Outline Package [MSOP]; Supplier 1: Digi-Key; Supplier Part Number 1: AD5443YRM-ND; Supplier 2: Mouser; Supplier Part Number 2: 584-AD5443YRM; Packing: Tube; RoHS: N; Mounting Technology: Surface Mount; ComponentLink1Description: Manufacturer URL; ComponentLink1URL: http://www.analog.com/en/index.html; ComponentLink2Description: Datasheet; ComponentLink2URL: http://www.analog.com/static/imported-files/data_sheets/AD5426_5432_5443.pdf; ComponentLink3Description: Package Specification; ComponentLink3URL: http://www.analog.com/static/imported-files/packages/PKG_PDF/MSOP%28RM%29/RM_10.pdf; ComponentLink4Description: Product URL; ComponentLink4URL: http://www.analog.com/en/digital-to-analog-converters/da-converters/ad5443/products/product.html; ComponentLink5Description: Reference Design URL; ComponentLink5URL: http://www.analog.com/en/digital-to-analog-converters/da-converters/ad5443/products/product.html#prod_cross_sell
footprint RM-10_N (TSSOP, 10-Leads, Body 3x3mm, Pitch 0.5mm, IPC Medium Density)
footprint RM-10_L (TSSOP, 10-Leads, Body 3x3mm, Pitch 0.5mm, IPC High Density)
footprint RM-10_M (TSSOP, 10-Leads, Body 3x3mm, Pitch 0.5mm, IPC Low Density)
pins: 1 IOUT1 (out) "DAC Current Output.", 2 IOUT2 "DAC Analog Ground. This pin should normally be tied to the analog ground of the system.", 3 GND (power) "Digital Ground Pin.", 4 SCLK (in) "Serial Clock Input. By default, data is clocked into the input shift register on the falling edge of the serial clock input. Alternatively, by means of the serial control bits, the device may be configured such that data is (See Datasheet)", 5 SDIN (in) "Serial Data Input. Data is clocked into the 16-bit input register on the active edge of the serial clock input. By default, on power-up, data is clocked into the shift register on the falling edge of SCLK. The control bits (See Datasheet)", 6 ~{SYNC} (in) "Active Low Control Input. This is the frame synchronization signal for the input data. When S\Y\N\C\ goes low, it powers on the SCLK and DIN buffers, and the input shift register is enabled. Data is loaded to the mode, the (See Datasheet)", 7 SDO (out) "Serial Data Output. This allows a number of parts to be daisy-chained. By default, data is clocked into the shift   register on the falling edge and out via SDO on the rising edge of SCLK. Data is always clocked out on the  (See Datasheet)", 8 VDD (power) "Positive Power Supply Input. These parts can be operated from a supply of 3 V to 5.5 V.", 9 VREF (in) "DAC Reference Voltage Input.", 10 RFB (in) "DAC Feedback Resistor Pin. Establish voltage output for the DAC by connecting to external amplifier output."

## AD5443YRM-REEL
designator U?
Single 12-Bit High Bandwidth Multiplying Digital-to-Analog Converter, -40 to +125 degC, RM-10, Reel; Generic Part Number: AD5443; Manufacturer: Analog Devices; PartNumber: AD5443YRM-REEL; # DAC Outputs: 1; Max V+: 5.5V; Op Pwr Diss: 25µW; Resolution (Bits): 12; Settling Time: 90ns; Single Supply: Yes; DatasheetVersion: Rev.D; PackageVersion: May-2005; PackageReference: RM-10; PackageDescription: 10-Lead Mini Small Outline Package [MSOP]; Supplier 1: Mouser; Supplier Part Number 1: N/A; Packing: Reel; RoHS: N; Mounting Technology: Surface Mount; ComponentLink1Description: Manufacturer URL; ComponentLink1URL: http://www.analog.com/en/index.html; ComponentLink2Description: Datasheet; ComponentLink2URL: http://www.analog.com/static/imported-files/data_sheets/AD5426_5432_5443.pdf; ComponentLink3Description: Package Specification; ComponentLink3URL: http://www.analog.com/static/imported-files/packages/PKG_PDF/MSOP%28RM%29/RM_10.pdf; ComponentLink4Description: Product URL; ComponentLink4URL: http://www.analog.com/en/digital-to-analog-converters/da-converters/ad5443/products/product.html; ComponentLink5Description: Reference Design URL; ComponentLink5URL: http://www.analog.com/en/digital-to-analog-converters/da-converters/ad5443/products/product.html#prod_cross_sell
footprint RM-10_N (TSSOP, 10-Leads, Body 3x3mm, Pitch 0.5mm, IPC Medium Density)
footprint RM-10_L (TSSOP, 10-Leads, Body 3x3mm, Pitch 0.5mm, IPC High Density)
footprint RM-10_M (TSSOP, 10-Leads, Body 3x3mm, Pitch 0.5mm, IPC Low Density)
pins: 1 IOUT1 (out) "DAC Current Output.", 2 IOUT2 "DAC Analog Ground. This pin should normally be tied to the analog ground of the system.", 3 GND (power) "Digital Ground Pin.", 4 SCLK (in) "Serial Clock Input. By default, data is clocked into the input shift register on the falling edge of the serial clock input. Alternatively, by means of the serial control bits, the device may be configured such that data is (See Datasheet)", 5 SDIN (in) "Serial Data Input. Data is clocked into the 16-bit input register on the active edge of the serial clock input. By default, on power-up, data is clocked into the shift register on the falling edge of SCLK. The control bits (See Datasheet)", 6 ~{SYNC} (in) "Active Low Control Input. This is the frame synchronization signal for the input data. When S\Y\N\C\ goes low, it powers on the SCLK and DIN buffers, and the input shift register is enabled. Data is loaded to the mode, the (See Datasheet)", 7 SDO (out) "Serial Data Output. This allows a number of parts to be daisy-chained. By default, data is clocked into the shift   register on the falling edge and out via SDO on the rising edge of SCLK. Data is always clocked out on the  (See Datasheet)", 8 VDD (power) "Positive Power Supply Input. These parts can be operated from a supply of 3 V to 5.5 V.", 9 VREF (in) "DAC Reference Voltage Input.", 10 RFB (in) "DAC Feedback Resistor Pin. Establish voltage output for the DAC by connecting to external amplifier output."

## AD5443YRM-REEL7
designator U?
Single 12-Bit High Bandwidth Multiplying Digital-to-Analog Converter, -40 to +125 degC, RM-10, Reel; Generic Part Number: AD5443; Manufacturer: Analog Devices; PartNumber: AD5443YRM-REEL7; # DAC Outputs: 1; Max V+: 5.5V; Op Pwr Diss: 25µW; Resolution (Bits): 12; Settling Time: 90ns; Single Supply: Yes; DatasheetVersion: Rev.D; PackageVersion: May-2005; PackageReference: RM-10; PackageDescription: 10-Lead Mini Small Outline Package [MSOP]; Supplier 1: Mouser; Supplier Part Number 1: N/A; Packing: Reel; RoHS: N; Mounting Technology: Surface Mount; ComponentLink1Description: Manufacturer URL; ComponentLink1URL: http://www.analog.com/en/index.html; ComponentLink2Description: Datasheet; ComponentLink2URL: http://www.analog.com/static/imported-files/data_sheets/AD5426_5432_5443.pdf; ComponentLink3Description: Package Specification; ComponentLink3URL: http://www.analog.com/static/imported-files/packages/PKG_PDF/MSOP%28RM%29/RM_10.pdf; ComponentLink4Description: Product URL; ComponentLink4URL: http://www.analog.com/en/digital-to-analog-converters/da-converters/ad5443/products/product.html; ComponentLink5Description: Reference Design URL; ComponentLink5URL: http://www.analog.com/en/digital-to-analog-converters/da-converters/ad5443/products/product.html#prod_cross_sell
footprint RM-10_N (TSSOP, 10-Leads, Body 3x3mm, Pitch 0.5mm, IPC Medium Density)
footprint RM-10_L (TSSOP, 10-Leads, Body 3x3mm, Pitch 0.5mm, IPC High Density)
footprint RM-10_M (TSSOP, 10-Leads, Body 3x3mm, Pitch 0.5mm, IPC Low Density)
pins: 1 IOUT1 (out) "DAC Current Output.", 2 IOUT2 "DAC Analog Ground. This pin should normally be tied to the analog ground of the system.", 3 GND (power) "Digital Ground Pin.", 4 SCLK (in) "Serial Clock Input. By default, data is clocked into the input shift register on the falling edge of the serial clock input. Alternatively, by means of the serial control bits, the device may be configured such that data is (See Datasheet)", 5 SDIN (in) "Serial Data Input. Data is clocked into the 16-bit input register on the active edge of the serial clock input. By default, on power-up, data is clocked into the shift register on the falling edge of SCLK. The control bits (See Datasheet)", 6 ~{SYNC} (in) "Active Low Control Input. This is the frame synchronization signal for the input data. When S\Y\N\C\ goes low, it powers on the SCLK and DIN buffers, and the input shift register is enabled. Data is loaded to the mode, the (See Datasheet)", 7 SDO (out) "Serial Data Output. This allows a number of parts to be daisy-chained. By default, data is clocked into the shift   register on the falling edge and out via SDO on the rising edge of SCLK. Data is always clocked out on the  (See Datasheet)", 8 VDD (power) "Positive Power Supply Input. These parts can be operated from a supply of 3 V to 5.5 V.", 9 VREF (in) "DAC Reference Voltage Input.", 10 RFB (in) "DAC Feedback Resistor Pin. Establish voltage output for the DAC by connecting to external amplifier output."